# Altium schematic symbol library Discrete.SchLib: 31 symbols
Pins are listed as number, name and electrical type; pins without a type are passive.

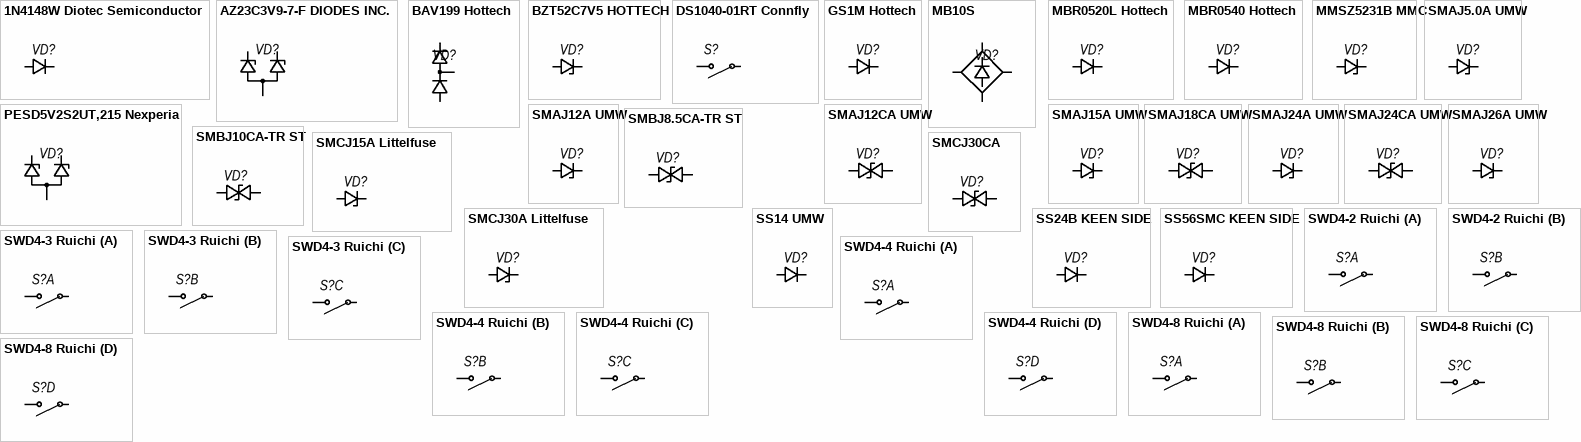
[diagram p0: symbols 1N4148W Diotec Semiconductor to SWD4-8 Ruichi]

## 1N4148W Diotec Semiconductor
designator VD?  (value not drawn)
Partnumber: =Identifier
footprint SOD-123
pins: 1, 2

## AZ23C3V9-7-F DIODES INC.
designator VD?, comment Стабилитрон сдвоенный 3.9 Вольт  (value not drawn)
footprint SOT23-3
pins: 1, 2, 3
2 alternate drawings of the same symbol

## BAV199 Hottech
designator VD?
footprint SOT23-3
pins: 1, 2, 3

## BZT52C7V5 HOTTECH
designator VD?  (value not drawn)
Стабилитрон 0,5 Вт, SOD-123, U стаб: 7,5 В, I стаб: 5 мА.; Partnumber: =Identifier
footprint SOD-123
pins: 1, 2

## DS1040-01RT Connfly
designator S?  (value not drawn)
DIP-переключатель угловой 1 секция
footprint DS1040-01RT
pins: 1, 2

## GS1M Hottech
designator VD?  (value not drawn)
Partnumber: =Identifier
footprint SMA (DO214-AC)
pins: 1, 2

## MB10S
designator VD?  (value not drawn)
footprint MB10S
pins: 1, 2, 3, 4

## MBR0520L Hottech
designator VD?  (value not drawn)
Диод Шоттки 0.5А 20В SOD-123; Partnumber: =Identifier
footprint SOD-123
pins: 1, 2

## MBR0540 Hottech
designator VD?  (value not drawn)
Диод Шоттки 0.5А 40В SOD-123; Partnumber: =Identifier
footprint SOD-123
pins: 1, 2

## MMSZ5231B MMC
designator VD?  (value not drawn)
Стабилитрон 5.1В; Partnumber: =Identifier
footprint SOD-123
pins: 1, 2

## PESD5V2S2UT,215 Nexperia
designator VD?, comment Стабилитрон сдвоенный 5.2 Вольт  (value not drawn)
footprint SOT23-3
pins: 1, 2, 3
2 alternate drawings of the same symbol

## SMAJ5.0A UMW
designator VD?  (value not drawn)
TVS диод, однонаправленный, 5 вольт; Partnumber: =Identifier
footprint SMA (DO214-AC)
pins: 1, 2

## SMAJ12A UMW
designator VD?  (value not drawn)
TVS диод, однонаправленный, 12 вольт; Partnumber: =Identifier
footprint SMA (DO214-AC)
pins: 1, 2

## SMAJ12CA UMW
designator VD?  (value not drawn)
TVS диод, двунаправленный, 12 вольт; Partnumber: =Identifier
footprint SMA (DO214-AC) - VAR2
pins: 1, 2

## SMAJ15A UMW
designator VD?  (value not drawn)
TVS диод, однонаправленный, 15 вольт; Partnumber: =Identifier
footprint SMA (DO214-AC)
pins: 1, 2

## SMAJ18CA UMW
designator VD?  (value not drawn)
TVS диод, двунаправленный, 18 вольт; Partnumber: =Identifier
footprint SMA (DO214-AC) - VAR2
pins: 1, 2

## SMAJ24A UMW
designator VD?  (value not drawn)
TVS диод, однонаправленный, 24 вольта; Partnumber: =Identifier
footprint SMA (DO214-AC)
pins: 1, 2

## SMAJ24CA UMW
designator VD?  (value not drawn)
TVS диод, двунаправленный, 24 вольт; Partnumber: =Identifier
footprint SMA (DO214-AC) - VAR2
pins: 1, 2

## SMAJ26A UMW
designator VD?  (value not drawn)
TVS диод, однонаправленный, 26 вольта; Partnumber: =Identifier
footprint SMA (DO214-AC)
pins: 1, 2

## SMBJ8.5CA-TR ST
designator VD?  (value not drawn)
TVS диод, двунаправленный, 8.5 вольт; Partnumber: =Identifier
footprint SMB(DO-214AA)-BIDIRECT
pins: 1, 2

## SMBJ10CA-TR ST
designator VD?  (value not drawn)
TVS диод, двунаправленный, 10 вольт; Partnumber: =Identifier
footprint SMB(DO-214AA)-BIDIRECT
pins: 1, 2

## SMCJ15A Littelfuse
designator VD?  (value not drawn)
TVS диод, однонаправленный, 15 вольт; Partnumber: =Identifier
footprint SMC
pins: 1, 2

## SMCJ30A Littelfuse
designator VD?  (value not drawn)
TVS диод, однонаправленный, 30 вольт; Partnumber: =Identifier
footprint SMC
pins: 1, 2

## SMCJ30CA
designator VD?  (value not drawn)
Защитный диод (TVS), двунаправленный, Uогр(ном) = 30 В, Pпик.= 1500 Вт.; Partnumber: =Identifier
footprint SMC-BIDIRECT
pins: 1, 2

## SS14 UMW
designator VD?  (value not drawn)
Partnumber: =Identifier
footprint SMA (DO214-AC)
pins: 1, 2

## SS24B KEEN SIDE
designator VD?  (value not drawn)
Partnumber: =Identifier
footprint SMB(DO-214AA)
pins: 1, 2

## SS56SMC KEEN SIDE
designator VD?  (value not drawn)
Partnumber: =Identifier
footprint SMC
pins: 1, 2

## SWD4-2 Ruichi
designator S?  (value not drawn)
Partnumber: SWD4-4 Ruichi
footprint SWD4-2
part A pins: 1, 4
part B pins: 2, 3

## SWD4-3 Ruichi
designator S?  (value not drawn)
Partnumber: SWD4-4 Ruichi
footprint SWD4-3
part A pins: 1, 6
part B pins: 2, 5
part C pins: 3, 4

## SWD4-4 Ruichi
designator S?  (value not drawn)
Partnumber: SWD4-4 Ruichi
footprint SWD4-4
part A pins: 1, 8
part B pins: 2, 7
part C pins: 3, 6
part D pins: 4, 5

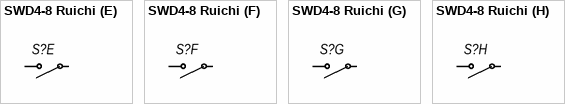
[diagram p1: symbol SWD4-8 Ruichi]

## SWD4-8 Ruichi
designator S?  (value not drawn)
Partnumber: SWD4-4 Ruichi
footprint SWD4-8
part A pins: 1, 16
part B pins: 2, 15
part C pins: 3, 14
part D pins: 4, 13
part E pins: 5, 12
part F pins: 6, 11
part G pins: 7, 10
part H pins: 8, 9